# Altium footprint library USBEMITSSOP.PcbLib: 1 footprints
Each footprint in its own frame and in the unit in brackets; x right, y up, seen from the top. Pads: shape width x height; smd on the part's side, far side on the other; paste and mask are expansions set on the pad; w line width, h text height; cw(c..) or ccw(c..) is an arc to the next point about the centre after c.
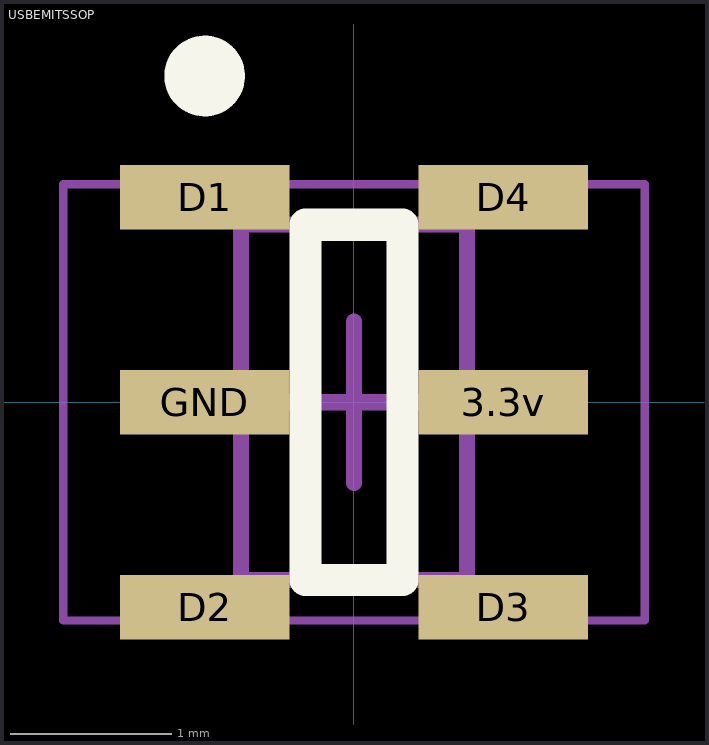
[diagram p0: the footprint, top view; thin cyan lines are the x and y axes]

## USBEMITSSOP [mm] "RC (Pi) EMI Filter 2nd Order Low Pass 2 Channel R = 33Ohms, C = 47pF  6-TSSOP, SC-88, SOT-363"
height 1.1
pads (6):
  rect 1.05x0.4 smd: 3.3v(0.925,0) D1(-0.925,1.27) D2(-0.925,-1.27) D3(0.925,-1.27) D4(0.925,1.27) GND(-0.925,0)
Top Overlay:
  circle w0.25: c-0.925,2.02 r0.125
  lines w0.2: -0.3,-1.1 -0.3,1.1 0.3,1.1 0.3,-1.1 -0.3,-1.1
Mechanical 13:
  lines w0.1: -0.7,-1.1 -0.7,1.1 0.7,1.1 0.7,-1.1 -0.7,-1.1
Mechanical 15:
  lines w0.05: -1.8,-1.35 -1.8,1.35 1.8,1.35 1.8,-1.35 -1.8,-1.35
  lines w0.1: -0.5,0 0.5,0 ; 0,-0.5 0,0.5
3D body: height 1.1, standoff 0.1, extent -0.7,-1.1 0.7,1.1